# EAGLE library part 615008185221 (library WR-MJ)
WR-MJ Cat 3 Modular Jacks – THT Characteristics Shieldingless and Shielded with EMI-Spring option Optional LEDs in various sequences Vertical and Horizontal orientation Stacked and assembled configurations Tray Packaging Properties PoE++ Compatible up to 100W (IEEE 802.3bt) UL and cULus-Certified UL94-V0 insulator material Ethernet Category 3 – Category 5 under conditions Applications Networks Internet of Things mart Buildings <https://www.we-online.com/components/media/o863419v209%20multi-WR-MJTH-615002138421.jpg> Details see: www.we-online.com/en/components/products/WR_MJ_MODULAR_JACKS_THT <www.we-online.com/catalog/WR_MJ_MODULAR_JACKS_THT/?utm_source=eagle_model&utm_medium=description_link&utm_campaign=eisos_eagle> Updated by Yingchun Shan 2020-01-06 2020(C) Würth Elektronik
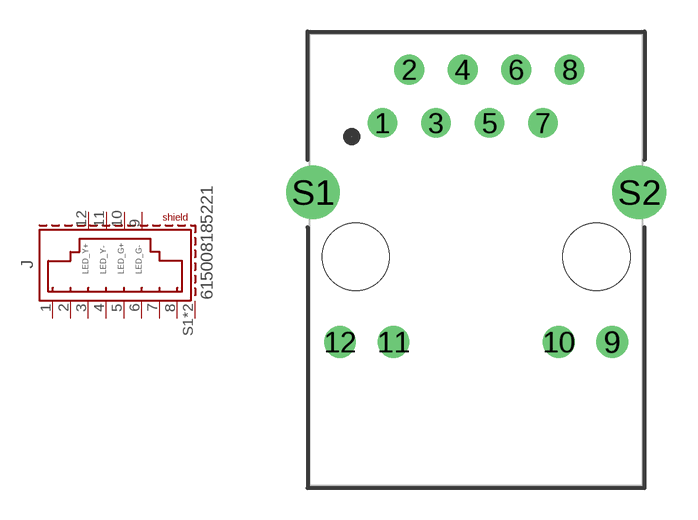
[diagram p25: symbol with the pads of 615008185221; footprint 615008185221]

Designator prefix J

## 615008185221 (APPLICATION-SYSTEM: CAT 3; DATASHEET-URL: https://www.we-online.com/redexpert/spec/615008185221?ae; EMI: Yes; LED: yellow-green; MOUNT: THT; PART-NUMBER: 615008185221; SIZE: Horizontal; TAB: Down; VALUE: 615008185221; XPXC: 8P8C)  [615008185221]
1  8  pas
2  7  pas
3  6  pas
4  5  pas
5  4  pas
6  3  pas
7  2  pas
8  1  pas
9  G-  pas
10  G+  pas
11  Y-  pas
12  Y+  pas
S1  SHIELD  pas
S2  SHIELD  pas

## Footprint 615008185221 (pad centres in mm)
WR-MJ Modular Jack Horizontal Shielded w. LED and EMI Panel Finger 8P8C Tab Down ,8Pins
drill 0.9: 1 -4.445,6.5; 2 -3.175,9.04; 3 -1.905,6.5; 4 -0.635,9.04; 5 0.635,6.5; 6 1.905,9.04; 7 3.175,6.5; 8 4.445,9.04
drill 1: 9 6.465,-3.91; 10 3.925,-3.91; 11 -3.925,-3.91; 12 -6.465,-3.91
drill 1.7: S1 -7.75,3.2; S2 7.75,3.2
hole 3.2 at -5.715,0.15
hole 3.2 at 5.715,0.15